# EAGLE library part SMDAT24C02B (library Traficon)
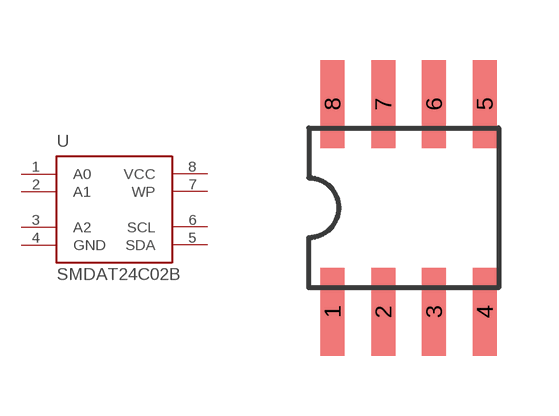
[diagram p188: symbol with the pads of SOIC8; footprint SOIC8]

Designator prefix U

## SMDAT24C02B  [SOIC8]
1  A0
2  A1
3  A2
4  GND
5  SDA
6  SCL
7  WP
8  VCC

## Footprint SOIC8 (pad centres in mm)
Small Outline IC
smd 0.6 x 2.2: 1 -1.905,-2.6; 2 -0.635,-2.6; 3 0.635,-2.6; 4 1.905,-2.6; 5 1.905,2.6; 6 0.635,2.6; 7 -0.635,2.6; 8 -1.905,2.6